# Altium integrated library TI Power Management Supervisor and Reset IC.IntLib: 819 symbols (part 28 of 30)
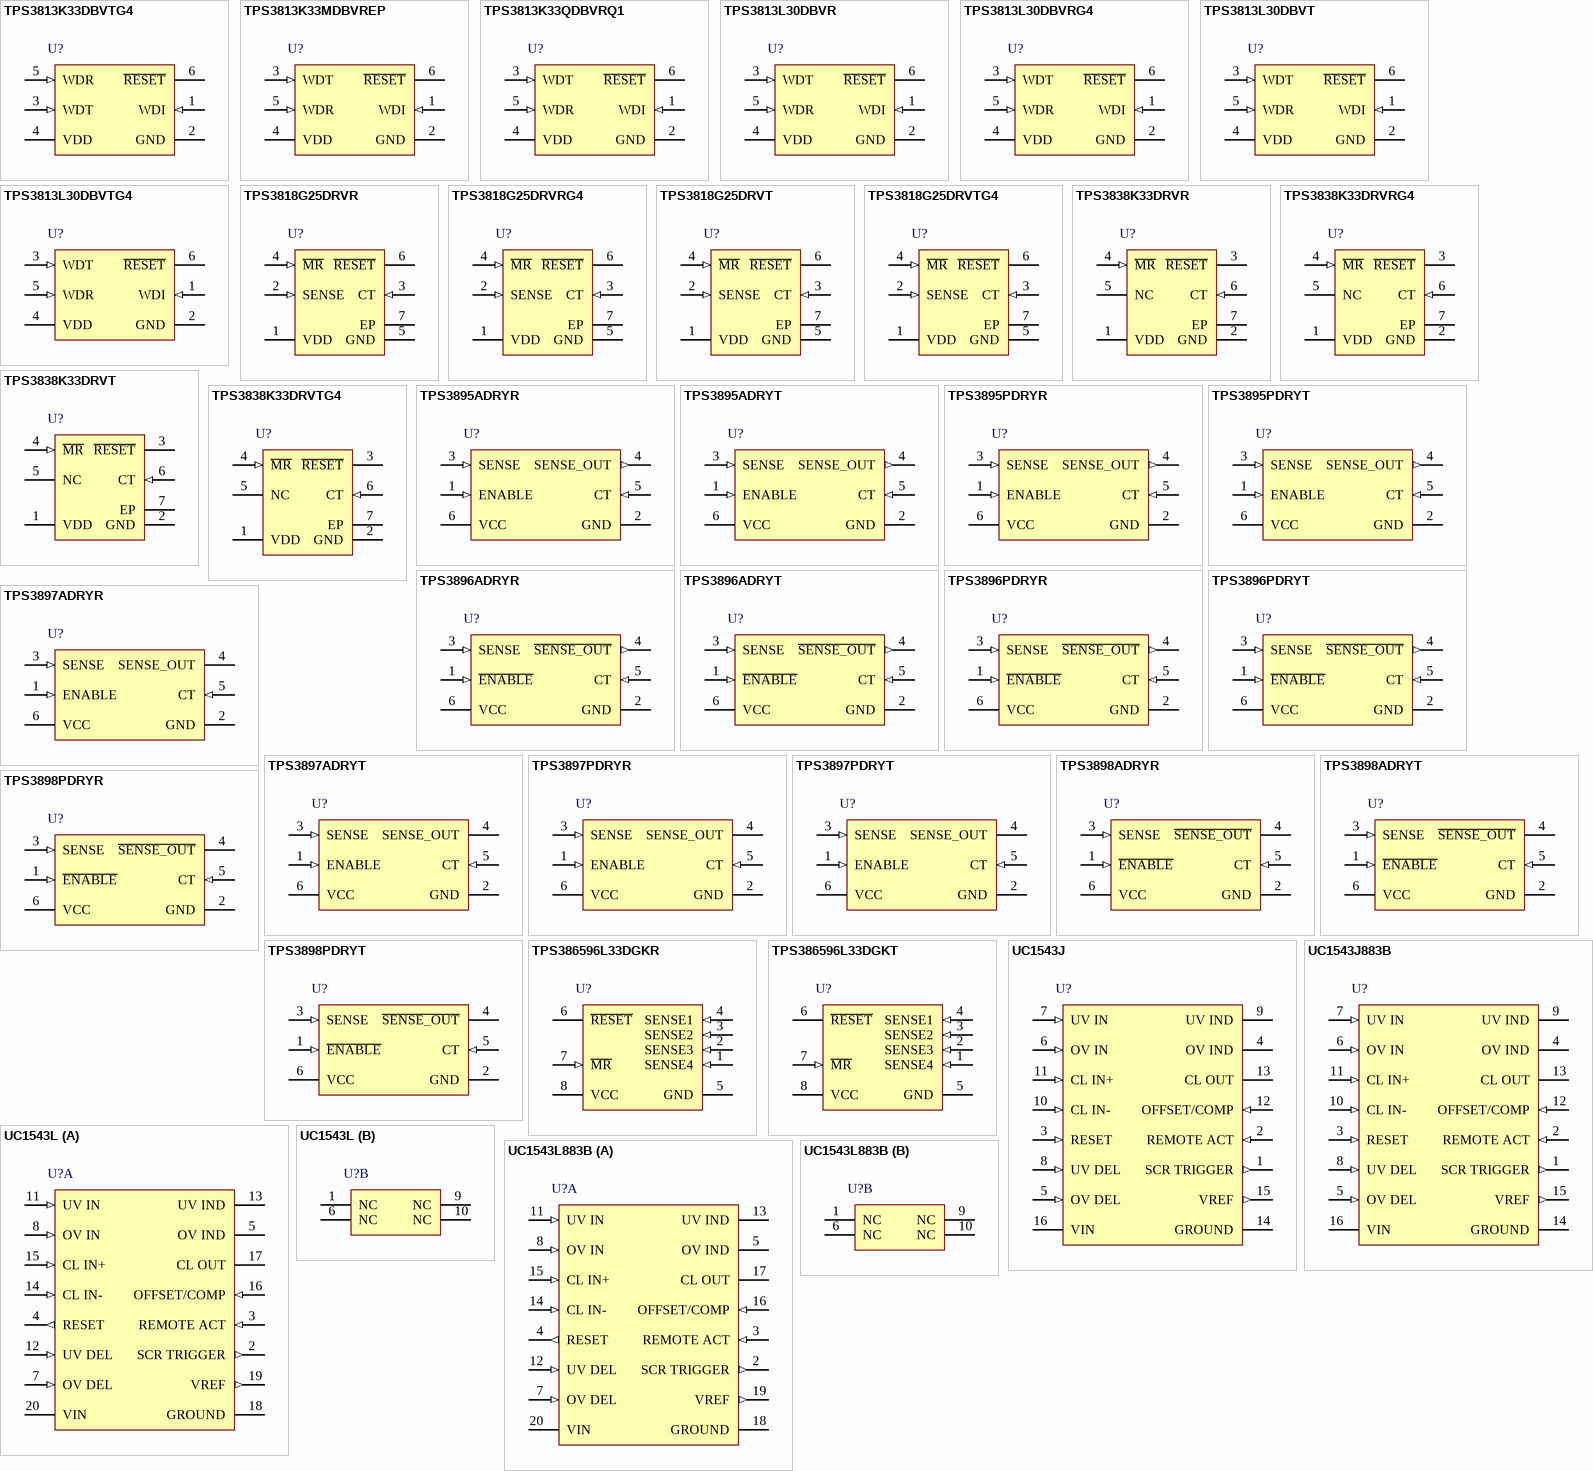
[diagram p48: symbols TPS3813K33DBVTG4 to UC1543L883B]

## TPS3896PDRYR
designator U?
Single Channel, Ultra Small, Adjustable Supervisory Circuit with Active-Low, Push-Pull Output, 1 Supply Monitored, -40 to 125 degC, 6-pin SON (DRY), Green (RoHS & no Sb/Br); Manufacturer: Texas Instruments; PartNumber: TPS3896PDRYR; # of supplies monitored: 1; Active Low Enable: TRUE; Iq(Typ)(uA): 6; Rating: Catalog; Reset Threshold Accuracy(%): 0.25; SubFamily: Supervisor and Reset IC; Time Delay(ms): 0.04, Programmable; VCC(Max)(V): 6.5; VCC(Min)(V): 1.7; DatasheetVersion: SBVS172A; PackageVersion: revF, Dec-2011; PackageReference: DRY6; PackageDescription: 6-Pin Plastic Small Outline No-Lead, 1 x 1.45 x 0.6 mm Body, 0.5 mm Pitch; Supplier 1: Digi-Key; Supplier Part Number 1: 296-29809-2-ND; Supplier 2: Digi-Key; Supplier Part Number 2: 296-29809-1-ND; Supplier 3: Digi-Key; Supplier Part Number 3: 296-29809-6-ND; Supplier 4: Newark; Supplier Part Number 4: 71T5444; Supplier 5: Mouser; Supplier Part Number 5: 595-TPS3896PDRYR; Enable Pin: TRUE; Output Driver Type / Reset Output: Active-low, Push-pull; Threshold Voltage 1 (typ)(Typ)(V): Adjustable; Mounting Technology: Surface Mount; ComponentLink1Description: Datasheet; ComponentLink1URL: http://www.ti.com/general/docs/lit/getliterature.tsp?genericPartNumber=TPS3896&fileType=pdf
footprint DRY6 (PSON, 6-Leads, Body 1x1.45mm, Pitch 0.5mm, TI Recommended)
pins: 1 ~{ENABLE} (in) "Active low input. Driving E\N\A\B\L\E\ high immediately makes S\E\N\S\E\_\O\U\T\ go high, independent of V(SENSE).  With V(SENSE) already above VIT+, drive E\N\A\B\L\E\ low to make S\E\N\S\E\_\O\U\T\ go low after the (See Datasheet)", 2 GND (power) "Ground", 3 SENSE (in) "This pin is connected to the voltage that is monitored with the use of external resistor. The output asserts after the capacitor-adjustable delay time when V(SENSE) rises above 0.5 V and ENABLE is asserted. The output (See Datasheet)", 4 ~{SENSE_OUT} (out) "S\E\N\S\E\_\O\U\T\ is an open-drain/push-pull output that is immediately driven high after V(SENSE) falls below VIT+ - Vhys or the E\N\A\B\L\E\ input is high. S\E\N\S\E\_\O\U\T\ goes low after the capacitor-adjustable delay (See Datasheet)", 5 CT (in) "Capacitor-adjustable delay. The CT pin offers a user-adjustable delay time. Connecting this pin to a ground referenced capacitor sets the delay time for SENSE rising above 0.5 V to  SENSE_OUT asserting (or ENABLE asserting (See Datasheet)", 6 VCC (power) "Supply voltage input. Connect a 1.7-V to 6.5-V supply to VCC to power the device. It is good analog design practice to place a 0.1-µF ceramic capacitor close to this pin."

## TPS3896PDRYT
designator U?
Single Channel, Ultra Small, Adjustable Supervisory Circuit with Active-Low, Push-Pull Output, 1 Supply Monitored, -40 to 125 degC, 6-pin SON (DRY), Green (RoHS & no Sb/Br); Manufacturer: Texas Instruments; PartNumber: TPS3896PDRYT; # of supplies monitored: 1; Active Low Enable: TRUE; Iq(Typ)(uA): 6; Rating: Catalog; Reset Threshold Accuracy(%): 0.25; SubFamily: Supervisor and Reset IC; Time Delay(ms): 0.04, Programmable; VCC(Max)(V): 6.5; VCC(Min)(V): 1.7; DatasheetVersion: SBVS172A; PackageVersion: revF, Dec-2011; PackageReference: DRY6; PackageDescription: 6-Pin Plastic Small Outline No-Lead, 1 x 1.45 x 0.6 mm Body, 0.5 mm Pitch; Supplier 1: Digi-Key; Supplier Part Number 1: TPS3896PDRYT-ND; Supplier 2: Newark; Supplier Part Number 2: 71T5445; Supplier 3: Mouser; Supplier Part Number 3: 595-TPS3896PDRYT; Enable Pin: TRUE; Output Driver Type / Reset Output: Active-low, Push-pull; Threshold Voltage 1 (typ)(Typ)(V): Adjustable; Mounting Technology: Surface Mount; ComponentLink1Description: Datasheet; ComponentLink1URL: http://www.ti.com/general/docs/lit/getliterature.tsp?genericPartNumber=TPS3896&fileType=pdf
footprint DRY6 (PSON, 6-Leads, Body 1x1.45mm, Pitch 0.5mm, TI Recommended)
pins: 1 ~{ENABLE} (in) "Active low input. Driving E\N\A\B\L\E\ high immediately makes S\E\N\S\E\_\O\U\T\ go high, independent of V(SENSE).  With V(SENSE) already above VIT+, drive E\N\A\B\L\E\ low to make S\E\N\S\E\_\O\U\T\ go low after the (See Datasheet)", 2 GND (power) "Ground", 3 SENSE (in) "This pin is connected to the voltage that is monitored with the use of external resistor. The output asserts after the capacitor-adjustable delay time when V(SENSE) rises above 0.5 V and ENABLE is asserted. The output (See Datasheet)", 4 ~{SENSE_OUT} (out) "S\E\N\S\E\_\O\U\T\ is an open-drain/push-pull output that is immediately driven high after V(SENSE) falls below VIT+ - Vhys or the E\N\A\B\L\E\ input is high. S\E\N\S\E\_\O\U\T\ goes low after the capacitor-adjustable delay (See Datasheet)", 5 CT (in) "Capacitor-adjustable delay. The CT pin offers a user-adjustable delay time. Connecting this pin to a ground referenced capacitor sets the delay time for SENSE rising above 0.5 V to  SENSE_OUT asserting (or ENABLE asserting (See Datasheet)", 6 VCC (power) "Supply voltage input. Connect a 1.7-V to 6.5-V supply to VCC to power the device. It is good analog design practice to place a 0.1-µF ceramic capacitor close to this pin."

## TPS3897ADRYR
designator U?
Single Channel, Ultra Small, Adjustable Supervisory Circuit with Active-High, Open-Drain Output, 1 Supply Monitored, -40 to 125 degC, 6-pin SON (DRY), Green (RoHS & no Sb/Br); Manufacturer: Texas Instruments; PartNumber: TPS3897ADRYR; # of supplies monitored: 1; Active High Enable: TRUE; Iq(Typ)(uA): 6; Rating: Catalog; Reset Threshold Accuracy(%): 0.25; SubFamily: Supervisor and Reset IC; Time Delay(ms): 0.04, Programmable; VCC(Max)(V): 6.5; VCC(Min)(V): 1.7; DatasheetVersion: SBVS172A; PackageVersion: revF, Dec-2011; PackageReference: DRY6; PackageDescription: 6-Pin Plastic Small Outline No-Lead, 1 x 1.45 x 0.6 mm Body, 0.5 mm Pitch; Supplier 1: Digi-Key; Supplier Part Number 1: 296-29810-2-ND; Supplier 2: Digi-Key; Supplier Part Number 2: 296-29810-1-ND; Supplier 3: Digi-Key; Supplier Part Number 3: 296-29810-6-ND; Supplier 4: Newark; Supplier Part Number 4: 71T5446; Supplier 5: Mouser; Supplier Part Number 5: 595-TPS3897ADRYR; Enable Pin: TRUE; Output Driver Type / Reset Output: Active-High, Open-drain; Threshold Voltage 1 (typ)(Typ)(V): Adjustable; Mounting Technology: Surface Mount; ComponentLink1Description: Datasheet; ComponentLink1URL: http://www.ti.com/general/docs/lit/getliterature.tsp?genericPartNumber=TPS3897&fileType=pdf
footprint DRY6 (PSON, 6-Leads, Body 1x1.45mm, Pitch 0.5mm, TI Recommended)
pins: 1 ENABLE (in) "Active high input. Driving ENABLE low immediately makes SENSE_OUT go low, independent of V(SENSE). With V(SENSE) already above VIT+, drive ENABLE high to make SENSE_OUT go high after the capacitor-adjustable delay time (A (See Datasheet)", 2 GND (power) "Ground", 3 SENSE (in) "This pin is connected to the voltage that is monitored with the use of external resistor. The output asserts after the capacitor-adjustable delay time when V(SENSE) rises above 0.5 V and ENABLE is asserted. The output (See Datasheet)", 4 SENSE_OUT (oc) "SENSE_OUT is an open-drain/push-pull output that is immediately driven low after V(SENSE) falls below VIT+ - Vhys or the ENABLE input is low. SENSE_OUT goes high after the capacitor-adjustable delay time when V(SENSE) is (See Datasheet)", 5 CT (in) "Capacitor-adjustable delay. The CT pin offers a user-adjustable delay time. Connecting this pin to a ground referenced capacitor sets the delay time for SENSE rising above 0.5 V to SENSE_OUT asserting (or ENABLE asserting to (See Datasheet)", 6 VCC (power) "Supply voltage input. Connect a 1.7-V to 6.5-V supply to VCC to power the device. It is good analog design practice to place a 0.1-uF ceramic capacitor close to this pin."

## TPS3897ADRYT
designator U?
Single Channel, Ultra Small, Adjustable Supervisory Circuit with Active-High, Open-Drain Output, 1 Supply Monitored, -40 to 125 degC, 6-pin SON (DRY), Green (RoHS & no Sb/Br); Manufacturer: Texas Instruments; PartNumber: TPS3897ADRYT; # of supplies monitored: 1; Active High Enable: TRUE; Iq(Typ)(uA): 6; Rating: Catalog; Reset Threshold Accuracy(%): 0.25; SubFamily: Supervisor and Reset IC; Time Delay(ms): 0.04, Programmable; VCC(Max)(V): 6.5; VCC(Min)(V): 1.7; DatasheetVersion: SBVS172A; PackageVersion: revF, Dec-2011; PackageReference: DRY6; PackageDescription: 6-Pin Plastic Small Outline No-Lead, 1 x 1.45 x 0.6 mm Body, 0.5 mm Pitch; Supplier 1: Digi-Key; Supplier Part Number 1: TPS3897ADRYT-ND; Supplier 2: Newark; Supplier Part Number 2: 71T5447; Supplier 3: Mouser; Supplier Part Number 3: 595-TPS3897ADRYT; Enable Pin: TRUE; Output Driver Type / Reset Output: Active-High, Open-drain; Threshold Voltage 1 (typ)(Typ)(V): Adjustable; Mounting Technology: Surface Mount; ComponentLink1Description: Datasheet; ComponentLink1URL: http://www.ti.com/general/docs/lit/getliterature.tsp?genericPartNumber=TPS3897&fileType=pdf
footprint DRY6 (PSON, 6-Leads, Body 1x1.45mm, Pitch 0.5mm, TI Recommended)
pins: 1 ENABLE (in) "Active high input. Driving ENABLE low immediately makes SENSE_OUT go low, independent of V(SENSE). With V(SENSE) already above VIT+, drive ENABLE high to make SENSE_OUT go high after the capacitor-adjustable delay time (A (See Datasheet)", 2 GND (power) "Ground", 3 SENSE (in) "This pin is connected to the voltage that is monitored with the use of external resistor. The output asserts after the capacitor-adjustable delay time when V(SENSE) rises above 0.5 V and ENABLE is asserted. The output (See Datasheet)", 4 SENSE_OUT (oc) "SENSE_OUT is an open-drain/push-pull output that is immediately driven low after V(SENSE) falls below VIT+ - Vhys or the ENABLE input is low. SENSE_OUT goes high after the capacitor-adjustable delay time when V(SENSE) is (See Datasheet)", 5 CT (in) "Capacitor-adjustable delay. The CT pin offers a user-adjustable delay time. Connecting this pin to a ground referenced capacitor sets the delay time for SENSE rising above 0.5 V to SENSE_OUT asserting (or ENABLE asserting to (See Datasheet)", 6 VCC (power) "Supply voltage input. Connect a 1.7-V to 6.5-V supply to VCC to power the device. It is good analog design practice to place a 0.1-uF ceramic capacitor close to this pin."

## TPS3897PDRYR
designator U?
Single Channel, Ultra Small, Adjustable Supervisory Circuit with Active-High, Open-Drain Output, 1 Supply Monitored, -40 to 125 degC, 6-pin SON (DRY), Green (RoHS & no Sb/Br); Manufacturer: Texas Instruments; PartNumber: TPS3897PDRYR; # of supplies monitored: 1; Active High Enable: TRUE; Iq(Typ)(uA): 6; Rating: Catalog; Reset Threshold Accuracy(%): 0.25; SubFamily: Supervisor and Reset IC; Time Delay(ms): 0.04, Programmable; VCC(Max)(V): 6.5; VCC(Min)(V): 1.7; DatasheetVersion: SBVS172A; PackageVersion: revF, Dec-2011; PackageReference: DRY6; PackageDescription: 6-Pin Plastic Small Outline No-Lead, 1 x 1.45 x 0.6 mm Body, 0.5 mm Pitch; Supplier 1: Digi-Key; Supplier Part Number 1: 296-29823-2-ND; Supplier 2: Digi-Key; Supplier Part Number 2: 296-29823-1-ND; Supplier 3: Digi-Key; Supplier Part Number 3: 296-29823-6-ND; Supplier 4: Newark; Supplier Part Number 4: 71T5448; Supplier 5: Mouser; Supplier Part Number 5: 595-TPS3897PDRYR; Enable Pin: TRUE; Output Driver Type / Reset Output: Active-High, Open-drain; Threshold Voltage 1 (typ)(Typ)(V): Adjustable; Mounting Technology: Surface Mount; ComponentLink1Description: Datasheet; ComponentLink1URL: http://www.ti.com/general/docs/lit/getliterature.tsp?genericPartNumber=TPS3897&fileType=pdf
footprint DRY6 (PSON, 6-Leads, Body 1x1.45mm, Pitch 0.5mm, TI Recommended)
pins: 1 ENABLE (in) "Active high input. Driving ENABLE low immediately makes SENSE_OUT go low, independent of V(SENSE). With V(SENSE) already above VIT+, drive ENABLE high to make SENSE_OUT go high after the capacitor-adjustable delay time (A (See Datasheet)", 2 GND (power) "Ground", 3 SENSE (in) "This pin is connected to the voltage that is monitored with the use of external resistor. The output asserts after the capacitor-adjustable delay time when V(SENSE) rises above 0.5 V and ENABLE is asserted. The output (See Datasheet)", 4 SENSE_OUT (oc) "SENSE_OUT is an open-drain/push-pull output that is immediately driven low after V(SENSE) falls below VIT+ - Vhys or the ENABLE input is low. SENSE_OUT goes high after the capacitor-adjustable delay time when V(SENSE) is (See Datasheet)", 5 CT (in) "Capacitor-adjustable delay. The CT pin offers a user-adjustable delay time. Connecting this pin to a ground referenced capacitor sets the delay time for SENSE rising above 0.5 V to SENSE_OUT asserting (or ENABLE asserting to (See Datasheet)", 6 VCC (power) "Supply voltage input. Connect a 1.7-V to 6.5-V supply to VCC to power the device. It is good analog design practice to place a 0.1-uF ceramic capacitor close to this pin."

## TPS3897PDRYT
designator U?
Single Channel, Ultra Small, Adjustable Supervisory Circuit with Active-High, Open-Drain Output, 1 Supply Monitored, -40 to 125 degC, 6-pin SON (DRY), Green (RoHS & no Sb/Br); Manufacturer: Texas Instruments; PartNumber: TPS3897PDRYT; # of supplies monitored: 1; Active High Enable: TRUE; Iq(Typ)(uA): 6; Rating: Catalog; Reset Threshold Accuracy(%): 0.25; SubFamily: Supervisor and Reset IC; Time Delay(ms): 0.04, Programmable; VCC(Max)(V): 6.5; VCC(Min)(V): 1.7; DatasheetVersion: SBVS172A; PackageVersion: revF, Dec-2011; PackageReference: DRY6; PackageDescription: 6-Pin Plastic Small Outline No-Lead, 1 x 1.45 x 0.6 mm Body, 0.5 mm Pitch; Supplier 1: Digi-Key; Supplier Part Number 1: TPS3897PDRYT-ND; Supplier 2: Newark; Supplier Part Number 2: 71T5449; Supplier 3: Mouser; Supplier Part Number 3: 595-TPS3897PDRYT; Enable Pin: TRUE; Output Driver Type / Reset Output: Active-High, Open-drain; Threshold Voltage 1 (typ)(Typ)(V): Adjustable; Mounting Technology: Surface Mount; ComponentLink1Description: Datasheet; ComponentLink1URL: http://www.ti.com/general/docs/lit/getliterature.tsp?genericPartNumber=TPS3897&fileType=pdf
footprint DRY6 (PSON, 6-Leads, Body 1x1.45mm, Pitch 0.5mm, TI Recommended)
pins: 1 ENABLE (in) "Active high input. Driving ENABLE low immediately makes SENSE_OUT go low, independent of V(SENSE). With V(SENSE) already above VIT+, drive ENABLE high to make SENSE_OUT go high after the capacitor-adjustable delay time (A (See Datasheet)", 2 GND (power) "Ground", 3 SENSE (in) "This pin is connected to the voltage that is monitored with the use of external resistor. The output asserts after the capacitor-adjustable delay time when V(SENSE) rises above 0.5 V and ENABLE is asserted. The output (See Datasheet)", 4 SENSE_OUT (oc) "SENSE_OUT is an open-drain/push-pull output that is immediately driven low after V(SENSE) falls below VIT+ - Vhys or the ENABLE input is low. SENSE_OUT goes high after the capacitor-adjustable delay time when V(SENSE) is (See Datasheet)", 5 CT (in) "Capacitor-adjustable delay. The CT pin offers a user-adjustable delay time. Connecting this pin to a ground referenced capacitor sets the delay time for SENSE rising above 0.5 V to SENSE_OUT asserting (or ENABLE asserting to (See Datasheet)", 6 VCC (power) "Supply voltage input. Connect a 1.7-V to 6.5-V supply to VCC to power the device. It is good analog design practice to place a 0.1-uF ceramic capacitor close to this pin."

## TPS3898ADRYR
designator U?
Single Channel, Ultra Small, Adjustable Supervisory Circuit with Active-Low, Open-Drain Output, 1 Supply Monitored, -40 to 125 degC, 6-pin SON (DRY), Green (RoHS & no Sb/Br); Manufacturer: Texas Instruments; PartNumber: TPS3898ADRYR; # of supplies monitored: 1; Active Low Enable: TRUE; Iq(Typ)(uA): 6; Rating: Catalog; Reset Threshold Accuracy(%): 0.25; SubFamily: Supervisor and Reset IC; Time Delay(ms): 0.04, Programmable; VCC(Max)(V): 6.5; VCC(Min)(V): 1.7; DatasheetVersion: SBVS172A; PackageVersion: revF, Dec-2011; PackageReference: DRY6; PackageDescription: 6-Pin Plastic Small Outline No-Lead, 1 x 1.45 x 0.6 mm Body, 0.5 mm Pitch; Supplier 1: Digi-Key; Supplier Part Number 1: 296-29811-2-ND; Supplier 2: Digi-Key; Supplier Part Number 2: 296-29811-1-ND; Supplier 3: Digi-Key; Supplier Part Number 3: 296-29811-6-ND; Supplier 4: Newark; Supplier Part Number 4: 71T5450; Supplier 5: Mouser; Supplier Part Number 5: 595-TPS3898ADRYR; Enable Pin: TRUE; Output Driver Type / Reset Output: Active-low, Open-drain; Threshold Voltage 1 (typ)(Typ)(V): Adjustable; Mounting Technology: Surface Mount; ComponentLink1Description: Datasheet; ComponentLink1URL: http://www.ti.com/general/docs/lit/getliterature.tsp?genericPartNumber=TPS3898&fileType=pdf
footprint DRY6 (PSON, 6-Leads, Body 1x1.45mm, Pitch 0.5mm, TI Recommended)
pins: 1 ~{ENABLE} (in) "Active low input. Driving E\N\A\B\L\E\ high immediately makes S\E\N\S\E\_\O\U\T\ go high,independent of V(SENSE). With V(SENSE) already above VIT+, drive E\N\A\B\L\E\ low to make S\E\N\S\E\_\O\U\T\ go low after the (See Datasheet)", 2 GND (power) "Ground", 3 SENSE (in) "This pin is connected to the voltage that is monitored with the use of external resistor. The output asserts after the capacitor-adjustable delay time when V(SENSE)rises above 0.5 V and ENABLE is asserted. The output (See Datasheet)", 4 ~{SENSE_OUT} (oc) "S\E\N\S\E\_\O\U\T\ is an open-drain/push-pull output that is immediately driven high after V(SENSE)falls below VIT+ - Vhys or the E\N\A\B\L\E\ input is high. S\E\N\S\E\_\O\U\T\ goes low after the capacitor-adjustable delay (See Datasheet)", 5 CT (in) "Capacitor-adjustable delay. The CT pin offers a user-adjustable delay time. Connecting thispin to a ground referenced capacitor sets the delay time for SENSE rising above 0.5 V to SENSE_OUT asserting (or ENABLE asserting to (See Datasheet)", 6 VCC (power) "Supply voltage input. Connect a 1.7-V to 6.5-V supply to VCC to power the device. It is good analog design practice to place a 0.1-µF ceramic capacitor close to this pin."

## TPS3898ADRYT
designator U?
Single Channel, Ultra Small, Adjustable Supervisory Circuit with Active-Low, Open-Drain Output, 1 Supply Monitored, -40 to 125 degC, 6-pin SON (DRY), Green (RoHS & no Sb/Br); Manufacturer: Texas Instruments; PartNumber: TPS3898ADRYT; # of supplies monitored: 1; Active Low Enable: TRUE; Iq(Typ)(uA): 6; Rating: Catalog; Reset Threshold Accuracy(%): 0.25; SubFamily: Supervisor and Reset IC; Time Delay(ms): 0.04, Programmable; VCC(Max)(V): 6.5; VCC(Min)(V): 1.7; DatasheetVersion: SBVS172A; PackageVersion: revF, Dec-2011; PackageReference: DRY6; PackageDescription: 6-Pin Plastic Small Outline No-Lead, 1 x 1.45 x 0.6 mm Body, 0.5 mm Pitch; Supplier 1: Digi-Key; Supplier Part Number 1: TPS3898ADRYT-ND; Supplier 2: Newark; Supplier Part Number 2: 71T5451; Supplier 3: Mouser; Supplier Part Number 3: 595-TPS3898ADRYT; Enable Pin: TRUE; Output Driver Type / Reset Output: Active-low, Open-drain; Threshold Voltage 1 (typ)(Typ)(V): Adjustable; Mounting Technology: Surface Mount; ComponentLink1Description: Datasheet; ComponentLink1URL: http://www.ti.com/general/docs/lit/getliterature.tsp?genericPartNumber=TPS3898&fileType=pdf
footprint DRY6 (PSON, 6-Leads, Body 1x1.45mm, Pitch 0.5mm, TI Recommended)
pins: 1 ~{ENABLE} (in) "Active low input. Driving E\N\A\B\L\E\ high immediately makes S\E\N\S\E\_\O\U\T\ go high,independent of V(SENSE). With V(SENSE) already above VIT+, drive E\N\A\B\L\E\ low to make S\E\N\S\E\_\O\U\T\ go low after the (See Datasheet)", 2 GND (power) "Ground", 3 SENSE (in) "This pin is connected to the voltage that is monitored with the use of external resistor. The output asserts after the capacitor-adjustable delay time when V(SENSE)rises above 0.5 V and ENABLE is asserted. The output (See Datasheet)", 4 ~{SENSE_OUT} (oc) "S\E\N\S\E\_\O\U\T\ is an open-drain/push-pull output that is immediately driven high after V(SENSE)falls below VIT+ - Vhys or the E\N\A\B\L\E\ input is high. S\E\N\S\E\_\O\U\T\ goes low after the capacitor-adjustable delay (See Datasheet)", 5 CT (in) "Capacitor-adjustable delay. The CT pin offers a user-adjustable delay time. Connecting thispin to a ground referenced capacitor sets the delay time for SENSE rising above 0.5 V to SENSE_OUT asserting (or ENABLE asserting to (See Datasheet)", 6 VCC (power) "Supply voltage input. Connect a 1.7-V to 6.5-V supply to VCC to power the device. It is good analog design practice to place a 0.1-µF ceramic capacitor close to this pin."

## TPS3898PDRYR
designator U?
Single Channel, Ultra Small, Adjustable Supervisory Circuit with Active-Low, Open-Drain Output, 1 Supply Monitored, -40 to 125 degC, 6-pin SON (DRY), Green (RoHS & no Sb/Br); Manufacturer: Texas Instruments; PartNumber: TPS3898PDRYR; # of supplies monitored: 1; Active Low Enable: TRUE; Iq(Typ)(uA): 6; Rating: Catalog; Reset Threshold Accuracy(%): 0.25; SubFamily: Supervisor and Reset IC; Time Delay(ms): 0.04, Programmable; VCC(Max)(V): 6.5; VCC(Min)(V): 1.7; DatasheetVersion: SBVS172A; PackageVersion: revF, Dec-2011; PackageReference: DRY6; PackageDescription: 6-Pin Plastic Small Outline No-Lead, 1 x 1.45 x 0.6 mm Body, 0.5 mm Pitch; Supplier 1: Digi-Key; Supplier Part Number 1: 296-29812-2-ND; Supplier 2: Digi-Key; Supplier Part Number 2: 296-29812-1-ND; Supplier 3: Digi-Key; Supplier Part Number 3: 296-29812-6-ND; Supplier 4: Newark; Supplier Part Number 4: 71T5452; Supplier 5: Mouser; Supplier Part Number 5: 595-TPS3898PDRYR; Enable Pin: TRUE; Output Driver Type / Reset Output: Active-low, Open-drain; Threshold Voltage 1 (typ)(Typ)(V): Adjustable; Mounting Technology: Surface Mount; ComponentLink1Description: Datasheet; ComponentLink1URL: http://www.ti.com/general/docs/lit/getliterature.tsp?genericPartNumber=TPS3898&fileType=pdf
footprint DRY6 (PSON, 6-Leads, Body 1x1.45mm, Pitch 0.5mm, TI Recommended)
pins: 1 ~{ENABLE} (in) "Active low input. Driving E\N\A\B\L\E\ high immediately makes S\E\N\S\E\_\O\U\T\ go high,independent of V(SENSE). With V(SENSE) already above VIT+, drive E\N\A\B\L\E\ low to make S\E\N\S\E\_\O\U\T\ go low after the (See Datasheet)", 2 GND (power) "Ground", 3 SENSE (in) "This pin is connected to the voltage that is monitored with the use of external resistor. The output asserts after the capacitor-adjustable delay time when V(SENSE)rises above 0.5 V and ENABLE is asserted. The output (See Datasheet)", 4 ~{SENSE_OUT} (oc) "S\E\N\S\E\_\O\U\T\ is an open-drain/push-pull output that is immediately driven high after V(SENSE)falls below VIT+ - Vhys or the E\N\A\B\L\E\ input is high. S\E\N\S\E\_\O\U\T\ goes low after the capacitor-adjustable delay (See Datasheet)", 5 CT (in) "Capacitor-adjustable delay. The CT pin offers a user-adjustable delay time. Connecting thispin to a ground referenced capacitor sets the delay time for SENSE rising above 0.5 V to SENSE_OUT asserting (or ENABLE asserting to (See Datasheet)", 6 VCC (power) "Supply voltage input. Connect a 1.7-V to 6.5-V supply to VCC to power the device. It is good analog design practice to place a 0.1-µF ceramic capacitor close to this pin."

## TPS3898PDRYT
designator U?
Single Channel, Ultra Small, Adjustable Supervisory Circuit with Active-Low, Open-Drain Output, 1 Supply Monitored, -40 to 125 degC, 6-pin SON (DRY), Green (RoHS & no Sb/Br); Manufacturer: Texas Instruments; PartNumber: TPS3898PDRYT; # of supplies monitored: 1; Active Low Enable: TRUE; Iq(Typ)(uA): 6; Rating: Catalog; Reset Threshold Accuracy(%): 0.25; SubFamily: Supervisor and Reset IC; Time Delay(ms): 0.04, Programmable; VCC(Max)(V): 6.5; VCC(Min)(V): 1.7; DatasheetVersion: SBVS172A; PackageVersion: revF, Dec-2011; PackageReference: DRY6; PackageDescription: 6-Pin Plastic Small Outline No-Lead, 1 x 1.45 x 0.6 mm Body, 0.5 mm Pitch; Supplier 1: Digi-Key; Supplier Part Number 1: TPS3898PDRYT-ND; Supplier 2: Newark; Supplier Part Number 2: 71T5453; Supplier 3: Mouser; Supplier Part Number 3: 595-TPS3898PDRYT; Enable Pin: TRUE; Output Driver Type / Reset Output: Active-low, Open-drain; Threshold Voltage 1 (typ)(Typ)(V): Adjustable; Mounting Technology: Surface Mount; ComponentLink1Description: Datasheet; ComponentLink1URL: http://www.ti.com/general/docs/lit/getliterature.tsp?genericPartNumber=TPS3898&fileType=pdf
footprint DRY6 (PSON, 6-Leads, Body 1x1.45mm, Pitch 0.5mm, TI Recommended)
pins: 1 ~{ENABLE} (in) "Active low input. Driving E\N\A\B\L\E\ high immediately makes S\E\N\S\E\_\O\U\T\ go high,independent of V(SENSE). With V(SENSE) already above VIT+, drive E\N\A\B\L\E\ low to make S\E\N\S\E\_\O\U\T\ go low after the (See Datasheet)", 2 GND (power) "Ground", 3 SENSE (in) "This pin is connected to the voltage that is monitored with the use of external resistor. The output asserts after the capacitor-adjustable delay time when V(SENSE)rises above 0.5 V and ENABLE is asserted. The output (See Datasheet)", 4 ~{SENSE_OUT} (oc) "S\E\N\S\E\_\O\U\T\ is an open-drain/push-pull output that is immediately driven high after V(SENSE)falls below VIT+ - Vhys or the E\N\A\B\L\E\ input is high. S\E\N\S\E\_\O\U\T\ goes low after the capacitor-adjustable delay (See Datasheet)", 5 CT (in) "Capacitor-adjustable delay. The CT pin offers a user-adjustable delay time. Connecting thispin to a ground referenced capacitor sets the delay time for SENSE rising above 0.5 V to SENSE_OUT asserting (or ENABLE asserting to (See Datasheet)", 6 VCC (power) "Supply voltage input. Connect a 1.7-V to 6.5-V supply to VCC to power the device. It is good analog design practice to place a 0.1-µF ceramic capacitor close to this pin."

## TPS386596L33DGKR
designator U?
Quad Voltage Supervisor with Manual Reset Input, 4 Supplies Monitored, -40 to 125 degC, 8-pin VSSOP(DGK), Green (RoHS & no Sb/Br); Manufacturer: Texas Instruments; PartNumber: TPS386596L33DGKR; # of supplies monitored: 4; Iq(Typ)(uA): 7; Rating: Catalog; SubFamily: Supervisor and Reset IC; Threshold Voltage 1 (typ)(Typ)(V): 2.9; Threshold Voltage 2 (typ)(Typ)(V): 0.4; Time Delay(ms): 50; VCC(Max)(V): 6.5; VCC(Min)(V): 1.8; DatasheetVersion: SLVSA75; PackageVersion: revE, May-2006; PackageReference: DGK8; PackageDescription: 8-Pin Thin Small Outline Package 3 x 3 mm Body ,0.65 mm Pitch; Supplier 1: Digi-Key; Supplier Part Number 1: TPS386596L33DGKR-ND; Supplier 2: Newark; Supplier Part Number 2: 84R0667; Supplier 3: Mouser; Supplier Part Number 3: 595-TPS386596L33DGKR; Threshold Voltage 3 (typ)(Typ)(V): 0.4; Threshold Voltage 4 (typ)(Typ)(V): 0.4; Mounting Technology: Surface Mount; Code_JEDEC: MO-187-AA; ComponentLink1Description: Datasheet; ComponentLink1URL: http://www.ti.com/general/docs/lit/getliterature.tsp?genericPartNumber=TPS386596&fileType=pdf
footprint DGK8_N (TSOP, 8-Leads, Body 3x3mm, Pitch 0.65mm, IPC Medium Density)
footprint DGK8_L (TSOP, 8-Leads, Body 3x3mm, Pitch 0.65mm, IPC High Density)
footprint DGK8_M (TSOP, 8-Leads, Body 3x3mm, Pitch 0.65mm, IPC Low Density)
pins: 1 SENSE4 (in) "Monitor voltage input for Supply 4 .When the voltage at this terminal drops below the threshold voltage (VIT4= 0.4V), R\E\S\E\T\ is asserted.", 2 SENSE3 (in) "Monitor voltage input for Supply 3 .When the voltage at this terminal drops below the threshold voltage (VIT3= 0.4V), R\E\S\E\T\ is asserted.", 3 SENSE2 (in) "Monitor voltage input for Supply 2 .When the voltage at this terminal drops below the threshold voltage (VIT2= 0.4V), R\E\S\E\T\ is asserted.", 4 SENSE1 (in) "Monitor voltage input for Supply 1 .When the voltage at this terminal drops below the threshold voltage (VIT1= 2.9V), R\E\S\E\T\ is asserted.", 5 GND (power) "Ground", 6 ~{RESET} (hiz) "R\E\S\E\T\ is an open-drain output pin. When R\E\S\E\T\ is asserted, this pin remains in a low-impedance state. When R\E\S\E\T\ is released, this pin goes to a high-impedance state after 50ms.", 7 ~{MR} (in) "Manual reset input with internal 100k pull-up to Vcc and 50ns deglitch. Logic low level of this pin asserts R\E\S\E\T\.", 8 VCC (power) "Supply voltage. Connecting a 0.1 µF ceramic capacitor close to this pin is recommended."

## TPS386596L33DGKT
designator U?
Quad Voltage Supervisor with Manual Reset Input, 4 Supplies Monitored, -40 to 125 degC, 8-pin VSSOP(DGK), Green (RoHS & no Sb/Br); Manufacturer: Texas Instruments; PartNumber: TPS386596L33DGKT; # of supplies monitored: 4; Iq(Typ)(uA): 7; Rating: Catalog; SubFamily: Supervisor and Reset IC; Threshold Voltage 1 (typ)(Typ)(V): 2.9; Threshold Voltage 2 (typ)(Typ)(V): 0.4; Time Delay(ms): 50; VCC(Max)(V): 6.5; VCC(Min)(V): 1.8; DatasheetVersion: SLVSA75; PackageVersion: revE, May-2006; PackageReference: DGK8; PackageDescription: 8-Pin Thin Small Outline Package 3 x 3 mm Body ,0.65 mm Pitch; Supplier 1: Digi-Key; Supplier Part Number 1: 296-27694-2-ND; Supplier 2: Digi-Key; Supplier Part Number 2: 296-27694-1-ND; Supplier 3: Digi-Key; Supplier Part Number 3: 296-27694-6-ND; Supplier 4: Newark; Supplier Part Number 4: 84R0668; Supplier 5: Mouser; Supplier Part Number 5: 595-TPS386596L33DGKT; Threshold Voltage 3 (typ)(Typ)(V): 0.4; Threshold Voltage 4 (typ)(Typ)(V): 0.4; Mounting Technology: Surface Mount; Code_JEDEC: MO-187-AA; ComponentLink1Description: Datasheet; ComponentLink1URL: http://www.ti.com/general/docs/lit/getliterature.tsp?genericPartNumber=TPS386596&fileType=pdf
footprint DGK8_N (TSOP, 8-Leads, Body 3x3mm, Pitch 0.65mm, IPC Medium Density)
footprint DGK8_L (TSOP, 8-Leads, Body 3x3mm, Pitch 0.65mm, IPC High Density)
footprint DGK8_M (TSOP, 8-Leads, Body 3x3mm, Pitch 0.65mm, IPC Low Density)
pins: 1 SENSE4 (in) "Monitor voltage input for Supply 4 .When the voltage at this terminal drops below the threshold voltage (VIT4= 0.4V), R\E\S\E\T\ is asserted.", 2 SENSE3 (in) "Monitor voltage input for Supply 3 .When the voltage at this terminal drops below the threshold voltage (VIT3= 0.4V), R\E\S\E\T\ is asserted.", 3 SENSE2 (in) "Monitor voltage input for Supply 2 .When the voltage at this terminal drops below the threshold voltage (VIT2= 0.4V), R\E\S\E\T\ is asserted.", 4 SENSE1 (in) "Monitor voltage input for Supply 1 .When the voltage at this terminal drops below the threshold voltage (VIT1= 2.9V), R\E\S\E\T\ is asserted.", 5 GND (power) "Ground", 6 ~{RESET} (hiz) "R\E\S\E\T\ is an open-drain output pin. When R\E\S\E\T\ is asserted, this pin remains in a low-impedance state. When R\E\S\E\T\ is released, this pin goes to a high-impedance state after 50ms.", 7 ~{MR} (in) "Manual reset input with internal 100k pull-up to Vcc and 50ns deglitch. Logic low level of this pin asserts R\E\S\E\T\.", 8 VCC (power) "Supply voltage. Connecting a 0.1 µF ceramic capacitor close to this pin is recommended."

## UC1543J
designator U?
Power Supply Supervisory Circuit, 1 Supply Monitored, -55 to 125 degC, 16-pin CDIP (J); Manufacturer: Texas Instruments; PartNumber: UC1543J; # of supplies monitored: 1; Iq(Typ)(uA): 7000; Output Driver Type / Reset Output: Active-low, Open-drain; Rating: Military; SubFamily: Supervisor and Reset IC; Threshold Voltage 1 (typ)(Typ)(V): 2.5; Time Delay(ms): Programmable; VCC(Max)(V): 40; VCC(Min)(V): 4.5; DatasheetVersion: SLUS188A; PackageVersion: revF, Mar-2003; PackageReference: J16; PackageDescription: 16-Pin, Ceramic Dual In-Line Package, Row Spacing 7.62 mm, Pitch 2.54 mm; Reset Threshold Accuracy(%): 1; Mounting Technology: Through Hole; ComponentLink1Description: Datasheet; ComponentLink1URL: http://www.ti.com/general/docs/lit/getliterature.tsp?genericPartNumber=UC1543&fileType=pdf
footprint J16 (DIP, 16-Leads, Row Spacing 7.62mm, Pitch 2.54mm, Body 21.3x6.9mm)
pins: 1 SCR TRIGGER (out), 2 REMOTE ACT (in), 3 RESET (in), 4 OV IND (oc), 5 OV DEL (in), 6 OV IN (in), 7 UV IN (in), 8 UV DEL (in), 9 UV IND (oc), 10 CL IN- (in), 11 CL IN+ (in), 12 OFFSET/COMP (in), 13 CL OUT (oc), 14 GROUND (power), 15 VREF (out), 16 VIN (power)

## UC1543J883B
designator U?
Power Supply Supervisory Circuit, 1 Supply Monitored, -55 to 125 degC, 16-pin CDIP (J); Manufacturer: Texas Instruments; PartNumber: UC1543J883B; # of supplies monitored: 1; Iq(Typ)(uA): 7000; Output Driver Type / Reset Output: Active-low, Open-drain; Rating: Military; SubFamily: Supervisor and Reset IC; Threshold Voltage 1 (typ)(Typ)(V): 2.5; Time Delay(ms): Programmable; VCC(Max)(V): 40; VCC(Min)(V): 4.5; DatasheetVersion: SLUS188A; PackageVersion: revF, Mar-2003; PackageReference: J16; PackageDescription: 16-Pin, Ceramic Dual In-Line Package, Row Spacing 7.62 mm, Pitch 2.54 mm; Reset Threshold Accuracy(%): 1; Mounting Technology: Through Hole; ComponentLink1Description: Datasheet; ComponentLink1URL: http://www.ti.com/general/docs/lit/getliterature.tsp?genericPartNumber=UC1543&fileType=pdf
footprint J16 (DIP, 16-Leads, Row Spacing 7.62mm, Pitch 2.54mm, Body 21.3x6.9mm)
pins: 1 SCR TRIGGER (out), 2 REMOTE ACT (in), 3 RESET (in), 4 OV IND (oc), 5 OV DEL (in), 6 OV IN (in), 7 UV IN (in), 8 UV DEL (in), 9 UV IND (oc), 10 CL IN- (in), 11 CL IN+ (in), 12 OFFSET/COMP (in), 13 CL OUT (oc), 14 GROUND (power), 15 VREF (out), 16 VIN (power)

## UC1543L
designator U?
Power Supply Supervisory Circuit, 1 Supply Monitored, -55 to 125 degC, 20-pin LCCC (FK); Manufacturer: Texas Instruments; PartNumber: UC1543L; # of supplies monitored: 1; Iq(Typ)(uA): 7000; Output Driver Type / Reset Output: Active-low, Open-drain; Rating: Military; SubFamily: Supervisor and Reset IC; Threshold Voltage 1 (typ)(Typ)(V): 2.5; Time Delay(ms): Programmable; VCC(Max)(V): 40; VCC(Min)(V): 4.5; DatasheetVersion: SLUS188A; PackageVersion: revD, Jan-2011; PackageReference: FK20; PackageDescription: 20-Pin Leadless Ceramic Chip Carrier, 1.27 mm Pitch; Reset Threshold Accuracy(%): 1; Mounting Technology: Surface Mount; Code_JEDEC: MS-004; ComponentLink1Description: Datasheet; ComponentLink1URL: http://www.ti.com/general/docs/lit/getliterature.tsp?genericPartNumber=UC1543&fileType=pdf
footprint FK20_N (Leadless Chip Carrier, 20-Leads, Body 8.9x8.9mm, Pitch 1.27mm, IPC Medium Density)
footprint FK20_L (Leadless Chip Carrier, 20-Leads, Body 8.9x8.9mm, Pitch 1.27mm, IPC High Density)
footprint FK20_M (Leadless Chip Carrier, 20-Leads, Body 8.9x8.9mm, Pitch 1.27mm, IPC Low Density)
part A pins: 2 SCR TRIGGER (out), 3 REMOTE ACT (in), 4 RESET (out), 5 OV IND (oc), 7 OV DEL (in), 8 OV IN (in), 11 UV IN (in), 12 UV DEL (in), 13 UV IND (oc), 14 CL IN- (in), 15 CL IN+ (in), 16 OFFSET/COMP (in), 17 CL OUT (oc), 18 GROUND (power), 19 VREF (out), 20 VIN (power)
part B pins: 1 NC, 6 NC, 9 NC, 10 NC

## UC1543L883B
designator U?
Power Supply Supervisory Circuit, 1 Supply Monitored, -55 to 125 degC, 20-pin LCCC (FK); Manufacturer: Texas Instruments; PartNumber: UC1543L883B; # of supplies monitored: 1; Iq(Typ)(uA): 7000; Output Driver Type / Reset Output: Active-low, Open-drain; Rating: Military; SubFamily: Supervisor and Reset IC; Threshold Voltage 1 (typ)(Typ)(V): 2.5; Time Delay(ms): Programmable; VCC(Max)(V): 40; VCC(Min)(V): 4.5; DatasheetVersion: SLUS188A; PackageVersion: revD, Jan-2011; PackageReference: FK20; PackageDescription: 20-Pin Leadless Ceramic Chip Carrier, 1.27 mm Pitch; Reset Threshold Accuracy(%): 1; Mounting Technology: Surface Mount; Code_JEDEC: MS-004; ComponentLink1Description: Datasheet; ComponentLink1URL: http://www.ti.com/general/docs/lit/getliterature.tsp?genericPartNumber=UC1543&fileType=pdf
footprint FK20_N (Leadless Chip Carrier, 20-Leads, Body 8.9x8.9mm, Pitch 1.27mm, IPC Medium Density)
footprint FK20_L (Leadless Chip Carrier, 20-Leads, Body 8.9x8.9mm, Pitch 1.27mm, IPC High Density)
footprint FK20_M (Leadless Chip Carrier, 20-Leads, Body 8.9x8.9mm, Pitch 1.27mm, IPC Low Density)
part A pins: 2 SCR TRIGGER (out), 3 REMOTE ACT (in), 4 RESET (out), 5 OV IND (oc), 7 OV DEL (in), 8 OV IN (in), 11 UV IN (in), 12 UV DEL (in), 13 UV IND (oc), 14 CL IN- (in), 15 CL IN+ (in), 16 OFFSET/COMP (in), 17 CL OUT (oc), 18 GROUND (power), 19 VREF (out), 20 VIN (power)
part B pins: 1 NC, 6 NC, 9 NC, 10 NC

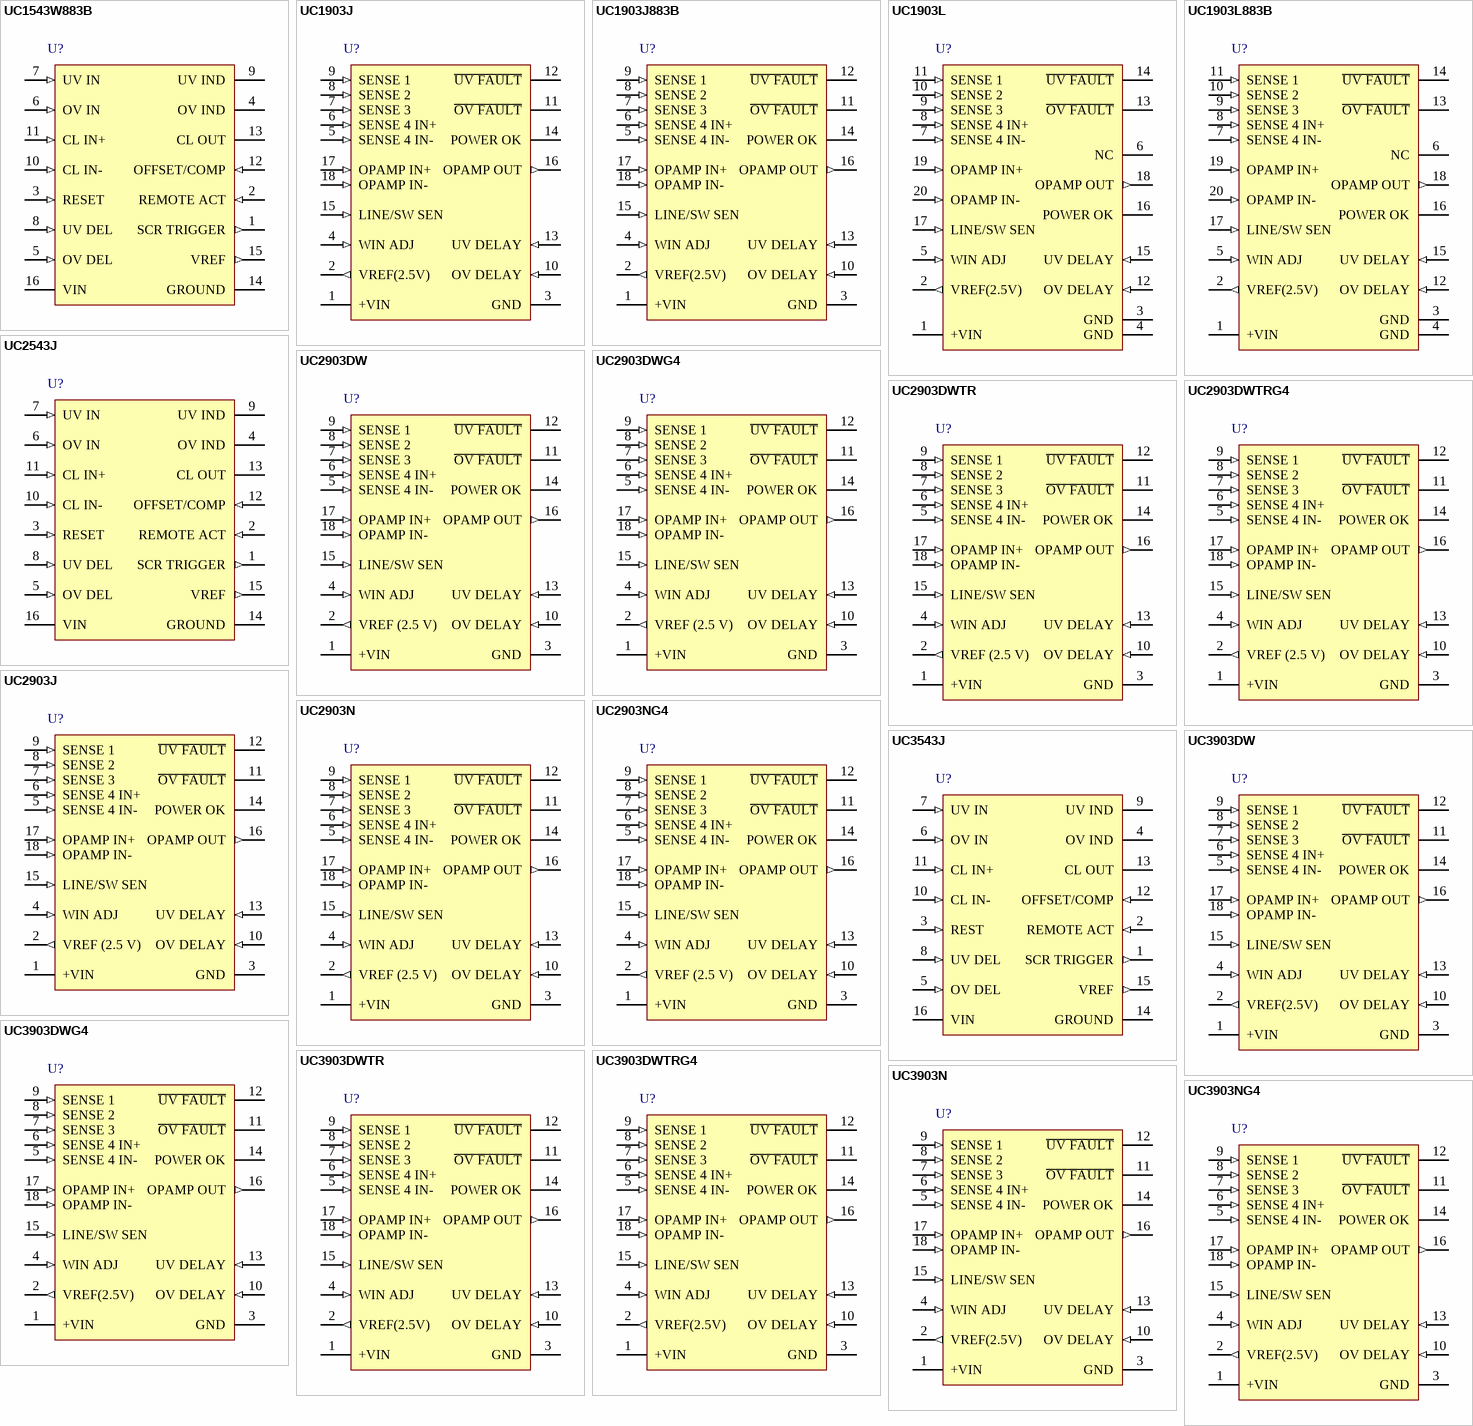
[diagram p20: symbols UC1543W883B to UC3903NG4]

## UC1543W883B
designator U?
Power Supply Supervisory Circuit, 1 Supply Monitored, 16-pin CFP (W); Manufacturer: Texas Instruments; PartNumber: UC1543W883B; # of supplies monitored: 1; Iq(Typ)(uA): 7000; Output Driver Type / Reset Output: Active-low, Open-drain; Rating: Military; SubFamily: Supervisor and Reset IC; Threshold Voltage 1 (typ)(Typ)(V): 2.5; Time Delay(ms): Programmable; VCC(Max)(V): 40; VCC(Min)(V): 4.5; DatasheetVersion: SLUS188A; PackageVersion: revD, Jul-2003; PackageReference: W16; PackageDescription: 16-Lead Ceramic Dual Flatpack, Body 10.9 x 7.2 mm (LxW max), Pitch 1.27 mm; Reset Threshold Accuracy(%): 1; Mounting Technology: Surface Mount; Code_JEDEC: MO-092-AC; ComponentLink1Description: Datasheet; ComponentLink1URL: http://www.ti.com/general/docs/lit/getliterature.tsp?genericPartNumber=UC1543&fileType=pdf
footprint W16 (DFP, 16 Leads, Body 10.2x6.7mm, Pitch 1.27mm, Gullwing Leadform)
pins: 1 SCR TRIGGER (out), 2 REMOTE ACT (in), 3 RESET (in), 4 OV IND (oc), 5 OV DEL (in), 6 OV IN (in), 7 UV IN (in), 8 UV DEL (in), 9 UV IND (oc), 10 CL IN- (in), 11 CL IN+ (in), 12 OFFSET/COMP (in), 13 CL OUT (oc), 14 GROUND (power), 15 VREF (out), 16 VIN (power)

## UC1903J
designator U?
Quad Supply and Line Monitor, 4 Supply Monitored, -55 to 125 degC, 18-pin CDIP (J); Manufacturer: Texas Instruments; PartNumber: UC1903J; # of supplies monitored: 4; Iq(Typ)(uA): 7000; Output Driver Type / Reset Output: Active-low, Open-drain; Rating: Military; Reset Threshold Accuracy(%): 3; SubFamily: Supervisor and Reset IC; Threshold Voltage 1 (typ)(Typ)(V): 1.8; Threshold Voltage 2 (typ)(Typ)(V): Adjustable; Time Delay(ms): Programmable; VCC(Max)(V): 40; VCC(Min)(V): 8; DatasheetVersion: SLUS233A; PackageVersion: revF, Mar-2003; PackageReference: J18; PackageDescription: 18-Pin, Ceramic Dual In-Line Package, Row Spacing 7.62 mm, Pitch 2.54 mm; Threshold Voltage 3 (typ)(Typ)(V): Adjustable; Threshold Voltage 4 (typ)(Typ)(V): Adjustable; Mounting Technology: Through Hole; ComponentLink1Description: Datasheet; ComponentLink1URL: http://www.ti.com/general/docs/lit/getliterature.tsp?genericPartNumber=UC1903&fileType=pdf
footprint J18 (DIP, 18-Leads, Row Spacing 7.62mm, Pitch 2.54mm, Body 24.1x6.7mm)
pins: 1 +VIN (power), 2 VREF(2.5V) (out), 3 GND (power), 4 WIN ADJ (in), 5 SENSE 4 IN- (in), 6 SENSE 4 IN+ (in), 7 SENSE 3 (in), 8 SENSE 2 (in), 9 SENSE 1 (in), 10 OV DELAY (in), 11 ~{OV FAULT} (oc), 12 ~{UV FAULT} (oc), 13 UV DELAY (in), 14 POWER OK (oc), 15 LINE/SW SEN (in), 16 OPAMP OUT (out), 17 OPAMP IN+ (in), 18 OPAMP IN- (in)

## UC1903J883B
designator U?
Quad Supply and Line Monitor, 4 Supply Monitored, -55 to 125 degC, 18-pin CDIP (J); Manufacturer: Texas Instruments; PartNumber: UC1903J883B; # of supplies monitored: 4; Iq(Typ)(uA): 7000; Output Driver Type / Reset Output: Active-low, Open-drain; Rating: Military; Reset Threshold Accuracy(%): 3; SubFamily: Supervisor and Reset IC; Threshold Voltage 1 (typ)(Typ)(V): 1.8; Threshold Voltage 2 (typ)(Typ)(V): Adjustable; Time Delay(ms): Programmable; VCC(Max)(V): 40; VCC(Min)(V): 8; DatasheetVersion: SLUS233A; PackageVersion: revF, Mar-2003; PackageReference: J18; PackageDescription: 18-Pin, Ceramic Dual In-Line Package, Row Spacing 7.62 mm, Pitch 2.54 mm; Threshold Voltage 3 (typ)(Typ)(V): Adjustable; Threshold Voltage 4 (typ)(Typ)(V): Adjustable; Mounting Technology: Through Hole; ComponentLink1Description: Datasheet; ComponentLink1URL: http://www.ti.com/general/docs/lit/getliterature.tsp?genericPartNumber=UC1903&fileType=pdf
footprint J18 (DIP, 18-Leads, Row Spacing 7.62mm, Pitch 2.54mm, Body 24.1x6.7mm)
pins: 1 +VIN (power), 2 VREF(2.5V) (out), 3 GND (power), 4 WIN ADJ (in), 5 SENSE 4 IN- (in), 6 SENSE 4 IN+ (in), 7 SENSE 3 (in), 8 SENSE 2 (in), 9 SENSE 1 (in), 10 OV DELAY (in), 11 ~{OV FAULT} (oc), 12 ~{UV FAULT} (oc), 13 UV DELAY (in), 14 POWER OK (oc), 15 LINE/SW SEN (in), 16 OPAMP OUT (out), 17 OPAMP IN+ (in), 18 OPAMP IN- (in)

## UC1903L
designator U?
Quad Supply and Line Monitor, 4 Supply Monitored, -55 to 125 degC, 20-pin LCCC (FK); Manufacturer: Texas Instruments; PartNumber: UC1903L; # of supplies monitored: 4; Iq(Typ)(uA): 7000; Output Driver Type / Reset Output: Active-low, Open-drain; Rating: Military; Reset Threshold Accuracy(%): 3; SubFamily: Supervisor and Reset IC; Threshold Voltage 1 (typ)(Typ)(V): 1.8; Threshold Voltage 2 (typ)(Typ)(V): Adjustable; Time Delay(ms): Programmable; VCC(Max)(V): 40; VCC(Min)(V): 8; DatasheetVersion: SLUS233A; PackageVersion: revD, Jan-2011; PackageReference: FK20; PackageDescription: 20-Pin Leadless Ceramic Chip Carrier, 1.27 mm Pitch; Threshold Voltage 3 (typ)(Typ)(V): Adjustable; Threshold Voltage 4 (typ)(Typ)(V): Adjustable; Mounting Technology: Surface Mount; Code_JEDEC: MS-004; ComponentLink1Description: Datasheet; ComponentLink1URL: http://www.ti.com/general/docs/lit/getliterature.tsp?genericPartNumber=UC1903&fileType=pdf
footprint FK20_N (Leadless Chip Carrier, 20-Leads, Body 8.9x8.9mm, Pitch 1.27mm, IPC Medium Density)
footprint FK20_L (Leadless Chip Carrier, 20-Leads, Body 8.9x8.9mm, Pitch 1.27mm, IPC High Density)
footprint FK20_M (Leadless Chip Carrier, 20-Leads, Body 8.9x8.9mm, Pitch 1.27mm, IPC Low Density)
pins: 1 +VIN (power), 2 VREF(2.5V) (out), 3 GND (power), 4 GND (power), 5 WIN ADJ (in), 6 NC, 7 SENSE 4 IN- (in), 8 SENSE 4 IN+ (in), 9 SENSE 3 (in), 10 SENSE 2 (in), 11 SENSE 1 (in), 12 OV DELAY (in), 13 ~{OV FAULT} (oc), 14 ~{UV FAULT} (oc), 15 UV DELAY (in), 16 POWER OK (oc), 17 LINE/SW SEN (in), 18 OPAMP OUT (out), 19 OPAMP IN+ (in), 20 OPAMP IN- (in)

## UC1903L883B
designator U?
Quad Supply and Line Monitor, 4 Supply Monitored, -55 to 125 degC, 20-pin LCCC (FK); Manufacturer: Texas Instruments; PartNumber: UC1903L883B; # of supplies monitored: 4; Iq(Typ)(uA): 7000; Output Driver Type / Reset Output: Active-low, Open-drain; Rating: Military; Reset Threshold Accuracy(%): 3; SubFamily: Supervisor and Reset IC; Threshold Voltage 1 (typ)(Typ)(V): 1.8; Threshold Voltage 2 (typ)(Typ)(V): Adjustable; Time Delay(ms): Programmable; VCC(Max)(V): 40; VCC(Min)(V): 8; DatasheetVersion: SLUS233A; PackageVersion: revD, Jan-2011; PackageReference: FK20; PackageDescription: 20-Pin Leadless Ceramic Chip Carrier, 1.27 mm Pitch; Threshold Voltage 3 (typ)(Typ)(V): Adjustable; Threshold Voltage 4 (typ)(Typ)(V): Adjustable; Mounting Technology: Surface Mount; Code_JEDEC: MS-004; ComponentLink1Description: Datasheet; ComponentLink1URL: http://www.ti.com/general/docs/lit/getliterature.tsp?genericPartNumber=UC1903&fileType=pdf
footprint FK20_N (Leadless Chip Carrier, 20-Leads, Body 8.9x8.9mm, Pitch 1.27mm, IPC Medium Density)
footprint FK20_L (Leadless Chip Carrier, 20-Leads, Body 8.9x8.9mm, Pitch 1.27mm, IPC High Density)
footprint FK20_M (Leadless Chip Carrier, 20-Leads, Body 8.9x8.9mm, Pitch 1.27mm, IPC Low Density)
pins: 1 +VIN (power), 2 VREF(2.5V) (out), 3 GND (power), 4 GND (power), 5 WIN ADJ (in), 6 NC, 7 SENSE 4 IN- (in), 8 SENSE 4 IN+ (in), 9 SENSE 3 (in), 10 SENSE 2 (in), 11 SENSE 1 (in), 12 OV DELAY (in), 13 ~{OV FAULT} (oc), 14 ~{UV FAULT} (oc), 15 UV DELAY (in), 16 POWER OK (oc), 17 LINE/SW SEN (in), 18 OPAMP OUT (out), 19 OPAMP IN+ (in), 20 OPAMP IN- (in)

## UC2543J
designator U?
Power Supply Supervisory Circuit, 1 Supply Monitored, -25 to 85 degC, 16-pin CDIP (J); Manufacturer: Texas Instruments; PartNumber: UC2543J; # of supplies monitored: 1; Iq(Typ)(uA): 7000; Output Driver Type / Reset Output: Active-low, Open-drain; Rating: Military; SubFamily: Supervisor and Reset IC; Threshold Voltage 1 (typ)(Typ)(V): 2.5; Time Delay(ms): Programmable; VCC(Max)(V): 40; VCC(Min)(V): 4.5; DatasheetVersion: SLUS188A; PackageVersion: revF, Mar-2003; PackageReference: J16; PackageDescription: 16-Pin, Ceramic Dual In-Line Package, Row Spacing 7.62 mm, Pitch 2.54 mm; Reset Threshold Accuracy(%): 1; Mounting Technology: Through Hole; ComponentLink1Description: Datasheet; ComponentLink1URL: http://www.ti.com/general/docs/lit/getliterature.tsp?genericPartNumber=UC2543M&fileType=pdf
footprint J16 (DIP, 16-Leads, Row Spacing 7.62mm, Pitch 2.54mm, Body 21.3x6.9mm)
pins: 1 SCR TRIGGER (out), 2 REMOTE ACT (in), 3 RESET (in), 4 OV IND (oc), 5 OV DEL (in), 6 OV IN (in), 7 UV IN (in), 8 UV DEL (in), 9 UV IND (oc), 10 CL IN- (in), 11 CL IN+ (in), 12 OFFSET/COMP (in), 13 CL OUT (oc), 14 GROUND (power), 15 VREF (out), 16 VIN (power)

## UC2903DW
designator U?
Quad Supply and Line Monitor, 4 Supply Monitored, -40 to 85 degC, 18-pin SOIC (DW), Green (RoHS & no Sb/Br); Manufacturer: Texas Instruments; PartNumber: UC2903DW; # of supplies monitored: 4; Iq(Typ)(uA): 7000; Output Driver Type / Reset Output: Active-low, Open-drain; Rating: Catalog; Reset Threshold Accuracy(%): 3; SubFamily: Supervisor and Reset IC; Threshold Voltage 1 (typ)(Typ)(V): 1.8; Threshold Voltage 2 (typ)(Typ)(V): Adjustable; Time Delay(ms): Programmable; VCC(Max)(V): 40; VCC(Min)(V): 8; DatasheetVersion: SLUS233A; PackageVersion: revG, Jan-2011; PackageReference: DW18; PackageDescription: 18-Pin Plastic Small Outline Integrated Circuit, 11.6 x 7.5 mm, Pitch 1.27 mm Pitch; Supplier 1: Digi-Key; Supplier Part Number 1: 296-2640-5-ND; Supplier 2: Newark; Supplier Part Number 2: 25C1482; Supplier 3: Mouser; Supplier Part Number 3: 595-UC2903DW; Threshold Voltage 3 (typ)(Typ)(V): Adjustable; Threshold Voltage 4 (typ)(Typ)(V): Adjustable; Mounting Technology: Surface Mount; Code_JEDEC: MS-013-AB; ComponentLink1Description: Datasheet; ComponentLink1URL: http://www.ti.com/general/docs/lit/getliterature.tsp?genericPartNumber=UC2903&fileType=pdf
footprint DW18_N (SOIC, 18-Leads, Body 11.6x7.5mm, Pitch 1.27mm, IPC Medium Density)
footprint DW18_L (SOIC, 18-Leads, Body 11.6x7.5mm, Pitch 1.27mm, IPC High Density)
footprint DW18_M (SOIC, 18-Leads, Body 11.6x7.5mm, Pitch 1.27mm, IPC Low Density)
pins: 1 +VIN (power), 2 VREF (2.5 V) (out), 3 GND (power), 4 WIN ADJ (in), 5 SENSE 4 IN- (in), 6 SENSE 4 IN+ (in), 7 SENSE 3 (in), 8 SENSE 2 (in), 9 SENSE 1 (in), 10 OV DELAY (in), 11 ~{OV FAULT} (oc), 12 ~{UV FAULT} (oc), 13 UV DELAY (in), 14 POWER OK (oc), 15 LINE/SW SEN (in), 16 OPAMP OUT (out), 17 OPAMP IN+ (in), 18 OPAMP IN- (in)

## UC2903DWG4
designator U?
Quad Supply and Line Monitor, 4 Supply Monitored, -40 to 85 degC, 18-pin SOIC (DW), Green (RoHS & no Sb/Br); Manufacturer: Texas Instruments; PartNumber: UC2903DWG4; # of supplies monitored: 4; Iq(Typ)(uA): 7000; Output Driver Type / Reset Output: Active-low, Open-drain; Rating: Catalog; Reset Threshold Accuracy(%): 3; SubFamily: Supervisor and Reset IC; Threshold Voltage 1 (typ)(Typ)(V): 1.8; Threshold Voltage 2 (typ)(Typ)(V): Adjustable; Time Delay(ms): Programmable; VCC(Max)(V): 40; VCC(Min)(V): 8; DatasheetVersion: SLUS233A; PackageVersion: revG, Jan-2011; PackageReference: DW18; PackageDescription: 18-Pin Plastic Small Outline Integrated Circuit, 11.6 x 7.5 mm, Pitch 1.27 mm Pitch; Supplier 1: Digi-Key; Supplier Part Number 1: UC2903DWG4-ND; Supplier 2: Newark; Supplier Part Number 2: 66K4912; Supplier 3: Mouser; Supplier Part Number 3: 595-UC2903DWG4; Threshold Voltage 3 (typ)(Typ)(V): Adjustable; Threshold Voltage 4 (typ)(Typ)(V): Adjustable; Mounting Technology: Surface Mount; Code_JEDEC: MS-013-AB; ComponentLink1Description: Datasheet; ComponentLink1URL: http://www.ti.com/general/docs/lit/getliterature.tsp?genericPartNumber=UC2903&fileType=pdf
footprint DW18_N (SOIC, 18-Leads, Body 11.6x7.5mm, Pitch 1.27mm, IPC Medium Density)
footprint DW18_L (SOIC, 18-Leads, Body 11.6x7.5mm, Pitch 1.27mm, IPC High Density)
footprint DW18_M (SOIC, 18-Leads, Body 11.6x7.5mm, Pitch 1.27mm, IPC Low Density)
pins: 1 +VIN (power), 2 VREF (2.5 V) (out), 3 GND (power), 4 WIN ADJ (in), 5 SENSE 4 IN- (in), 6 SENSE 4 IN+ (in), 7 SENSE 3 (in), 8 SENSE 2 (in), 9 SENSE 1 (in), 10 OV DELAY (in), 11 ~{OV FAULT} (oc), 12 ~{UV FAULT} (oc), 13 UV DELAY (in), 14 POWER OK (oc), 15 LINE/SW SEN (in), 16 OPAMP OUT (out), 17 OPAMP IN+ (in), 18 OPAMP IN- (in)

## UC2903DWTR
designator U?
Quad Supply and Line Monitor, 4 Supply Monitored, -40 to 85 degC, 18-pin SOIC (DW), Green (RoHS & no Sb/Br); Manufacturer: Texas Instruments; PartNumber: UC2903DWTR; # of supplies monitored: 4; Iq(Typ)(uA): 7000; Output Driver Type / Reset Output: Active-low, Open-drain; Rating: Catalog; Reset Threshold Accuracy(%): 3; SubFamily: Supervisor and Reset IC; Threshold Voltage 1 (typ)(Typ)(V): 1.8; Threshold Voltage 2 (typ)(Typ)(V): Adjustable; Time Delay(ms): Programmable; VCC(Max)(V): 40; VCC(Min)(V): 8; DatasheetVersion: SLUS233A; PackageVersion: revG, Jan-2011; PackageReference: DW18; PackageDescription: 18-Pin Plastic Small Outline Integrated Circuit, 11.6 x 7.5 mm, Pitch 1.27 mm Pitch; Supplier 1: Digi-Key; Supplier Part Number 1: UC2903DWTR-ND; Supplier 2: Newark; Supplier Part Number 2: 77C3085; Supplier 3: Mouser; Supplier Part Number 3: 595-UC2903DWTR; Threshold Voltage 3 (typ)(Typ)(V): Adjustable; Threshold Voltage 4 (typ)(Typ)(V): Adjustable; Mounting Technology: Surface Mount; Code_JEDEC: MS-013-AB; ComponentLink1Description: Datasheet; ComponentLink1URL: http://www.ti.com/general/docs/lit/getliterature.tsp?genericPartNumber=UC2903&fileType=pdf
footprint DW18_N (SOIC, 18-Leads, Body 11.6x7.5mm, Pitch 1.27mm, IPC Medium Density)
footprint DW18_L (SOIC, 18-Leads, Body 11.6x7.5mm, Pitch 1.27mm, IPC High Density)
footprint DW18_M (SOIC, 18-Leads, Body 11.6x7.5mm, Pitch 1.27mm, IPC Low Density)
pins: 1 +VIN (power), 2 VREF (2.5 V) (out), 3 GND (power), 4 WIN ADJ (in), 5 SENSE 4 IN- (in), 6 SENSE 4 IN+ (in), 7 SENSE 3 (in), 8 SENSE 2 (in), 9 SENSE 1 (in), 10 OV DELAY (in), 11 ~{OV FAULT} (oc), 12 ~{UV FAULT} (oc), 13 UV DELAY (in), 14 POWER OK (oc), 15 LINE/SW SEN (in), 16 OPAMP OUT (out), 17 OPAMP IN+ (in), 18 OPAMP IN- (in)